# Altium schematic symbol library AG.IC.SchLib: 58 symbols
Pins are listed as number, name and electrical type; pins without a type are passive.

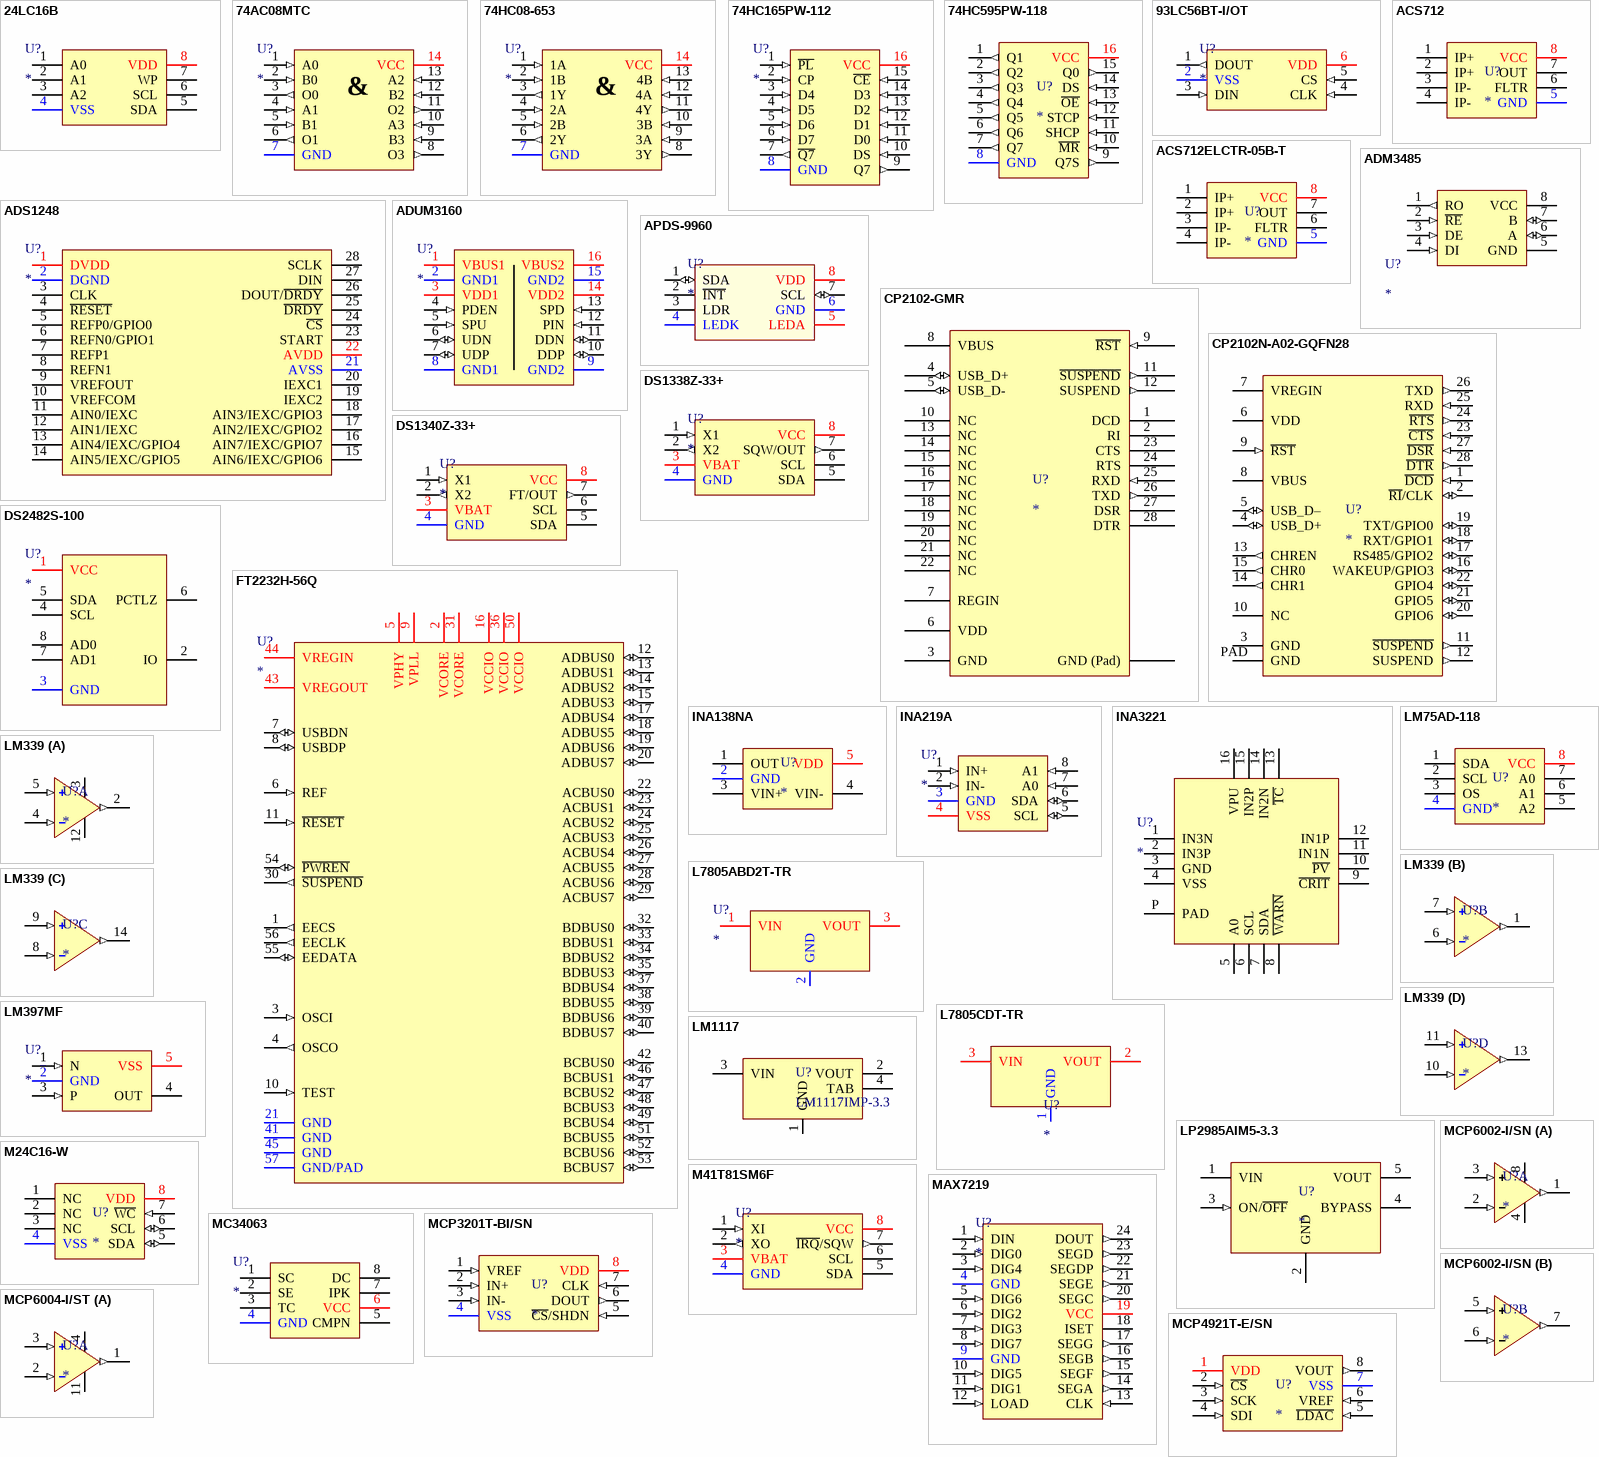
[diagram p0: symbols 24LC16B to MCP6004-I/ST]

## 24LC16B
designator U?
footprint SOIC-8
pins: 1 A0, 2 A1, 3 A2, 4 VSS, 5 SDA, 6 SCL, 7 WP, 8 VDD

## 74AC08MTC
designator U?
IC GATE AND 4CH 2-INP 14TSSOP; Manufacturer: Fairchild (ON Semiconductor); Product Number: 74AC08MTC; VCC: 2V~6V; Supplier Link: https://www.digikey.com/en/products/detail/on-semiconductor/74AC08MTC/976043; Supplier: DigiKey; Supplier Part No: 74AC08MTCFS-ND; Mounting Technology: SMT; Package: TSSOP-14; Alternative Supplier: Chipdip; Alternative Supplier Link: https://www.chipdip.by/product/74ac08mtc; Alternative Supplier Part No: 9050000554
footprint TSSOP-14
pins: 1 A0 (in), 2 B0 (in), 3 O0 (out), 4 A1 (in), 5 B1 (in), 6 O1 (out), 7 GND (power), 8 O3 (out), 9 B3 (in), 10 A3 (in), 11 O2 (out), 12 B2 (in), 13 A2 (in), 14 VCC (power)
text: &

## 74HC08-653
designator U?
Manufacturer: NXP
footprint SOIC-14
pins: 1 1A (in), 2 1B (in), 3 1Y (out), 4 2A (in), 5 2B (in), 6 2Y (out), 7 GND (power), 8 3Y (out), 9 3A (in), 10 3B (in), 11 4Y (out), 12 4A (in), 13 4B (in), 14 VCC (power)
1 alternate drawing of the same symbol
text: &

## 74HC165PW-112
designator U?
IC SHIFT REGISTER 8BIT 16TSSOP
footprint NXP_TSSOP-16_RF_M (Nexperia TSSOP-16 Reflow Medium Density)
pins: 1 ~{PL} (in), 2 CP (in), 3 D4 (in), 4 D5 (in), 5 D6 (in), 6 D7 (in), 7 ~{Q7} (out), 8 GND (power), 9 Q7 (out), 10 DS (in), 11 D0 (in), 12 D1 (in), 13 D2 (in), 14 D3 (in), 15 ~{CE} (in), 16 VCC (power)

## 74HC595PW-118
designator U?
IC SHIFT REGISTER 8BIT 16TSSOP; Manufacturer: Nexperia; Supplier: DigiKey; Supplier Link: https://www.digikey.com/en/products/detail/nexperia-usa-inc/74HC595PW-118/946653; Supplier Part No: 1727-3068-1-ND; Mounting Type: SMT; Alternative Supplier: Chipdip; Alternative Supplier Part No: 9000051359; Alternative Supplier Link: https://www.chipdip.by/product/74hc595pw.118
footprint NXP_TSSOP-16_RF_M (Nexperia TSSOP-16 Reflow Medium Density)
pins: 1 Q1 (out), 2 Q2 (out), 3 Q3 (out), 4 Q4 (out), 5 Q5 (out), 6 Q6 (out), 7 Q7 (out), 8 GND (power), 9 Q7S (out), 10 ~{MR} (in), 11 SHCP (in), 12 STCP (in), 13 ~{OE} (in), 14 DS (in), 15 Q0 (out), 16 VCC (power)

## 93LC56BT-I/OT
designator U?
IC EEPROM 1KBIT SPI 2MHZ SOT23-6; Manufacturer: Microchip Technology; Product Number: 93LC46BT-I/OT; Mounting Technology: SMT; Package: SOT-23-6; Supplier: DigiKey; Supplier Link: https://www.digikey.com/en/products/detail/microchip-technology/93LC46BT-I-OT/572840; Supplier Part No: 93LC46BT-I/OTCT-ND; Category: IC\Memory
footprint TI_SOT-23-6
pins: 1 DOUT (out), 2 VSS (power), 3 DIN (in), 4 CLK (in), 5 CS (in), 6 VDD (power)

## ACS712
designator U?
SENSOR CURRENT HALL AC/DC
footprint SOIC-8
pins: 1 IP+, 2 IP+, 3 IP-, 4 IP-, 5 GND, 6 FLTR, 7 OUT, 8 VCC

## ACS712ELCTR-05B-T
designator U?
SENSOR CURRENT HALL 5A AC/DC; Manufacturer Product No: ACS712ELCTR-05B-T; Manufacturer: Allegro MicroSystems; Supplier URL: https://www.digikey.com/en/products/detail/allegro-microsystems/ACS712ELCTR-05B-T/1284593; Supplier: DigiKey; Supplier Part No: 620-1189-1-ND; Package: 8-SOIC (0.154"", 3.90mm Width); Mounting Technology: SMT; Max Sensing Current: 5 A; Supplier Description: Current Sensor 5A 1 Channel Hall Effect, Open Loop Bidirectional 8-SOIC (0.154", 3.90mm Width)
pins: 1 IP+, 2 IP+, 3 IP-, 4 IP-, 5 GND, 6 FLTR, 7 OUT, 8 VCC

## ADM3485
designator U?
3.3V Full-Duplex RS-485/RS-422 Transceiver
pins: 1 RO (out) "Receiver Output", 2 ~{RE} (in) "Receiver Output Enable", 3 DE (in) "Driver Output Enable", 4 DI (in) "Driver Input", 5 GND (power), 6 A (io) "Non-inverting Receiver Input A", 7 B (io) "Inverting Receiver Input B", 8 VCC (power)

## ADS1248
designator U?
IC ADC 24BIT SIGMA-DELTA 28TSSOP
footprint TSSOP-28
pins: 1 DVDD, 2 DGND, 3 CLK, 4 ~{RESET}, 5 REFP0/GPIO0, 6 REFN0/GPIO1, 7 REFP1, 8 REFN1, 9 VREFOUT, 10 VREFCOM, 11 AIN0/IEXC, 12 AIN1/IEXC, 13 AIN4/IEXC/GPIO4, 14 AIN5/IEXC/GPIO5, 15 AIN6/IEXC/GPIO6, 16 AIN7/IEXC/GPIO7, 17 AIN2/IEXC/GPIO2, 18 AIN3/IEXC/GPIO3, 19 IEXC2, 20 IEXC1, 21 AVSS, 22 AVDD, 23 START, 24 ~{CS}, 25 ~{DRDY}, 26 DOUT/~{DRDY}, 27 DIN, 28 SCLK

## ADUM3160
designator U?
DGT ISOL 2500VRMS 2CH USB 16SOIC; Manufacturer: Analog Devices Inc.; Product Number: ADUM3160BRWZ-RL; Mounting Technology: SMT; Package: SOP-16; Supplier: DigiKey; Alternative Supplier: Belchip; Supplier Link: https://www.digikey.com/en/products/detail/analog-devices-inc/ADUM3160BRWZ-RL/2606661; Supplier Part No: ADUM3160BRWZ-RLCT-ND; Alternative Supplier Link: https://belchip.by/product/?selected_product=43702; Alternative Supplier Part No: 43702
footprint ADUM3160_SOP-16_RF_M (16-Lead Standard Small Outline Package [SOIC-W] Wide Body [RW-16])
pins: 1 VBUS1 (power), 2 GND1 (power), 3 VDD1 (power), 4 PDEN (in), 5 SPU (in), 6 UDN (io), 7 UDP (io), 8 GND1 (power), 9 GND2 (power), 10 DDP (io), 11 DDN (io), 12 PIN (in), 13 SPD (in), 14 VDD2 (power), 15 GND2 (power), 16 VBUS2 (power)

## APDS-9960
designator U?
SENSOR OPT 560NM AMBIENT MODULE; VCC: 3.3V; Supplier: DigiKey; Supplier Link: https://www.digikey.com/en/products/detail/broadcom-limited/APDS-9960/5043146; Supplier Part No: 516-3480-1-ND; Mounting Technology: SMT; Category: IC/Sensor; Package: SMD-8 Module
footprint APDS-9960_RF_M (Optical Sensor Ambient 8-SMD Module)
pins: 1 SDA (io), 2 ~{INT} (oc), 3 LDR, 4 LEDK (power), 5 LEDA (power), 6 GND (power), 7 SCL (io), 8 VDD (power)

## CP2102-GMR
designator U?
[Obsolete] USB UART Converter
pins: 1 DCD, 2 RI, 3 GND (power), 4 USB_D+ (io), 5 USB_D- (io), 6 VDD (power), 7 REGIN (power), 8 VBUS (power), 9 ~{RST} (in), 10 NC, 11 ~{SUSPEND} (out), 12 SUSPEND (out), 13 NC, 14 NC, 15 NC, 16 NC, 17 NC, 18 NC, 19 NC, 20 NC, 21 NC, 22 NC, 23 CTS, 24 RTS, 25 RXD (in), 26 TXD (out), 27 DSR, 28 DTR, ?1 GND (Pad) (power)

## CP2102N-A02-GQFN28
designator U?
USB UART Converter [QFN-28]
pins: 1 ~{DCD} (in), 2 ~{RI}/CLK (io), 3 GND (power), 4 USB_D+ (io), 5 USB_D– (io), 6 VDD (power), 7 VREGIN (power), 8 VBUS (power), 9 ~{RST} (in), 10 NC, 11 ~{SUSPEND} (out), 12 SUSPEND (out), 13 CHREN (out), 14 CHR1 (out), 15 CHR0 (out), 16 WAKEUP/GPIO3 (io), 17 RS485/GPIO2 (io), 18 RXT/GPIO1 (io), 19 TXT/GPIO0 (io), 20 GPIO6 (io), 21 GPIO5 (io), 22 GPIO4 (io), 23 ~{CTS} (in), 24 ~{RTS} (out), 25 RXD (in), 26 TXD (out), 27 ~{DSR} (in), 28 ~{DTR} (out), PAD GND (power)

## DS1338Z-33+
designator U?
IC RTC CLK/CALENDAR I2C 8-SOIC; Manufacturer Part No: DS1338Z-33+; Manufacturer: Maxim Integrated; VCC: 3.3V; Alternative Supplier: Chipdip; Alternative Supplier Link: https://www.chipdip.by/product/ds1338z-33; Alternative Supplier Part No: 405041657; Supplier Part No: DS1338Z-33+T&RCT-ND; Supplier: DigiKey; Supplier Link: https://www.digikey.com/en/products/detail/maxim-integrated/DS1338Z-33-T-R/1196924; Mounting Technology: SMT; Package: SOIC-8; Category: IC/RTC
footprint SOIC-8
pins: 1 X1 (in), 2 X2 (out), 3 VBAT (power), 4 GND (power), 5 SDA (oc), 6 SCL (oc), 7 SQW/OUT (out), 8 VCC (power)

## DS1340Z-33+
designator U?
IC RTC CLK/CALENDAR I2C 8-SOIC; Manufacturer Part No: DS1340Z-33+; Manufacturer: Maxim Integrated; VCC: 3.3V; Alternative Supplier: Chipdip; Alternative Supplier Link: https://www.chipdip.by/product/ds1340z-33-2; Alternative Supplier Part No: 9000387657; Supplier Part No: DS1340Z-33+-ND; Supplier: DigiKey; Supplier Link: https://www.digikey.com/en/products/detail/maxim-integrated/DS1340Z-33/680583; Mounting Technology: SMT; Package: SOIC-8; Category: IC/RTC
footprint SOIC-8
pins: 1 X1 (in), 2 X2 (out), 3 VBAT (power), 4 GND (power), 5 SDA (oc), 6 SCL (oc), 7 FT/OUT (out), 8 VCC (power)

## DS2482S-100
designator U?
Single-Channel 1-Wire Master
footprint SOIC-8
pins: 1 VCC, 2 IO, 3 GND, 4 SCL, 5 SDA, 6 PCTLZ, 7 AD1, 8 AD0

## FT2232H-56Q
designator U?
IC DUAL USB TO UART/FIFO 56VQFN; Manufacturer: Future Technology Devices International Ltd; Product Number: FT2232H-56Q-TRAY; Package: VQFN-56; Supplier: DigiKey; Supplier Link: https://www.digikey.com/en/products/detail/ftdi-future-technology-devices-international-ltd/FT2232H-56Q-TRAY/5994773; Supplier Part No: 768-1276-ND; Mounting Technology: SMT; Datasheet: https://www.ftdichip.com/Support/Documents/DataSheets/ICs/DS_FT2232H.pdf; Category: IC
footprint FTDI_VQFN-56_RF_M (FTDI FT2232H-56Q Reflow Medium Density)
pins: 1 EECS (out), 2 VCORE (power), 3 OSCI (in), 4 OSCO (out), 5 VPHY (power), 6 REF (in), 7 USBDN (io), 8 USBDP (io), 9 VPLL (power), 10 TEST (in), 11 ~{RESET} (in), 12 ADBUS0 (io), 13 ADBUS1 (io), 14 ADBUS2 (io), 15 ADBUS3 (io), 16 VCCIO (power), 17 ADBUS4 (io), 18 ADBUS5 (io), 19 ADBUS6 (io), 20 ADBUS7 (io), 21 GND (power), 22 ACBUS0 (io), 23 ACBUS1 (io), 24 ACBUS2 (io), 25 ACBUS3 (io), 26 ACBUS4 (io), 27 ACBUS5 (io), 28 ACBUS6 (io), 29 ACBUS7 (io), 30 ~{SUSPEND} (out), 31 VCORE (power), 32 BDBUS0 (io), 33 BDBUS1 (io), 34 BDBUS2 (io), 35 BDBUS3 (io), 36 VCCIO (power), 37 BDBUS4 (io), 38 BDBUS5 (io), 39 BDBUS6 (io), 40 BDBUS7 (io), 41 GND (power), 42 BCBUS0 (io), 43 VREGOUT (power), 44 VREGIN (power), 45 GND (power), 46 BCBUS1 (io), 47 BCBUS2 (io), 48 BCBUS3 (io), 49 BCBUS4 (io), 50 VCCIO (power), 51 BCBUS5 (io), 52 BCBUS6 (io), 53 BCBUS7 (io), 54 ~{PWREN} (io), 55 EEDATA (io), 56 EECLK (out), 57 GND/PAD (power)

## INA138NA
designator U?
High-Side Measurement Current Shunt Monitor 2.7-36V; Manufacturer: Texas Instruments; Product Number: INA138NA/250; Supplier: Chipdip; Supplier Link: https://www.chipdip.by/product/ina138na-250-4; Supplier Part No: 9000096840; Package: SOT-23-5; Mounting Technology: SMT
pins: 1 OUT, 2 GND, 3 VIN+, 4 VIN-, 5 VDD
1 alternate drawing of the same symbol

## INA219A
designator U?
Current Monitor 1% I2C Bus; Manufacturer: Texas Instruments; Product Number: INA219AIDCNT; Supplier: DigiKey; Supplier Part No: 296-26073-1-ND; Supplier URL: https://www.digikey.com/en/products/detail/texas-instruments/INA219AIDCNT/2047417; Accuracy: 1%; Mounting Type: SMT; Package: SOT-23-8
footprint INA219-SOT-23-8 (Pitch 0.65mm)
pins: 1 IN+ (in), 2 IN- (in), 3 GND (power), 4 VSS (power), 5 SCL (io), 6 SDA (io), 7 A0 (in), 8 A1 (in)

## INA3221
designator U?
IC CURRENT SHUNT MONITOR 16VQFN; Manufacturer: Texas Instruments; Supplier: DigiKey; Supplier Part No: 296-INA3221AIRGVRCT-ND; Supplier Link: https://www.digikey.com/en/products/detail/texas-instruments/INA3221AIRGVR/3588826; Mounting Technology: SMT; Package: VQFN-16; Category: IC
footprint TI_QFN-16_RF_M (Texas Instruments QFN-16 (S-PVQFN-16) Reflow Medium Density)
pins: 1 IN3N, 2 IN3P, 3 GND, 4 VSS, 5 A0, 6 SCL, 7 SDA, 8 ~{WARN}, 9 ~{CRIT}, 10 ~{PV}, 11 IN1N, 12 IN1P, 13 ~{TC}, 14 IN2N, 15 IN2P, 16 VPU, P PAD

## L7805ABD2T-TR
designator U?
IC REG LINEAR 5V 1.5A D2PAK; Manufacturer: ST Microelectronics; Product Number: L7805ABD2T-TR; Input Voltage: 35V (max.); Output Current: 1.5A (max.); Alternative Supplier Link: https://www.chipdip.by/product/l7805ab-d-2t; Alternative Supplier: Chipdip; Alternative Supplier Part No: 2815345081; Mounting Technology: SMT; Package: D2-PAK; Supplier Link: https://www.digikey.com/en/products/detail/stmicroelectronics/L7805ABD2T-TR/585694; Supplier: DigiKey; Supplier Part No: 497-1170-1-ND; Output Voltage: 5V
footprint ST_D2PAK_L78xx (IC REG LINEAR -5V 1.5A D2PAK)
pins: 1 VIN (power), 2 GND (power), 3 VOUT (power)

## L7805CDT-TR
designator U?
IC REG LINEAR 5V 1.5A DPAK; Manufacturer: ST Microelectronics; Input Voltage: 20V (max.); Output Current: 1.5A (max.); Product Number: L7805CDT-TR; Alternative Supplier: Chipdip; Alternative Supplier Link: https://www.chipdip.by/product/l7805cdt-tr; Alternative Supplier Part No: 9000101805; Category: IC/Voltage Regulator; Mounting Technology: SMT; Output Voltage: 5V; Package: D-PAK; Supplier: DigiKey; Supplier Link: https://www.digikey.com/en/products/detail/stmicroelectronics/L7805CDT-TR/1038234; Supplier Part No: 497-7255-1-ND
footprint DPAK
pins: 1 GND, 2 VOUT, 3 VIN

## LM75AD-118
designator U?
SENSOR DIGITAL -55C-125C 8SO; PartNo: 568-10295-1-ND; Manufacturer: NXP USA Inc.; ProductNumber: LM75AD,118; ShippingPackage: Cut Tape (CT); DetailedDescription: Temperature Sensor Digital, Local -55°C ~ 125°C 11 b 8-SO; Supplier: DigiKey; URL: https://www.digikey.com/en/products/detail/nxp-usa-inc/LM75AD118/1692795; UnitPrice: $0.74; Package: 8-SOIC (0.154", 3.90mm Width)
footprint SOIC127P600X175-8N (SOIC, 8-Leads, Body 4.90x3.90mm, Pitch 1.27mm, IPC Medium Density)
pins: 1 SDA, 2 SCL, 3 OS, 4 GND, 5 A2, 6 A1, 7 A0, 8 VCC

## LM339
designator U?
QUAD DIFFERENTIAL COMPARATOR; Manufacturer: Unisonic; Supplier: Belchip; Supplier Link: https://belchip.by/product/?selected_product=37254; Supplier Part No: 37254; Mounting Type: SMT; Package: TSSOP-14; Datasheet Link: http://www.unisonic.com.tw/datasheet/LM339.pdf
footprint TSSOP-14-SOP127P600-8N (TSSOP-14)
part A pins: 2 OUTA (out), 3 VDD (power), 4 INAN (in), 5 INAP (in), 12 VSS (power)
part B pins: 1 OUTB (out), 6 INBN (in), 7 INBP (in)
part C pins: 8 INCN (in), 9 INCP (in), 14 OUTC (out)
part D pins: 10 INDN (in), 11 INDP (in), 13 OUTD (out)

## LM397MF
designator U?
IC COMPARATOR VOLT SGL SOT23-5; Manufacturer: Texas Instruments; Product Number: LM397MFX/NOPB; Supplier Part No: LM397MFX/NOPBCT-ND; Supplier: DigiKey; Alternative Supplier: Chipdip; Alternative Supplier Link: https://www.chipdip.by/product/lm397mf-nopb; Alternative Supplier Part No: 9000014932; Supplier Link: https://www.digikey.com/en/products/detail/texas-instruments/LM397MFX-NOPB/1871434; Mounting Technology: SMT; Package: SOT-23-5; Category: IC
footprint TI_SOT-23-5
pins: 1 N (in), 2 GND (power), 3 P (in), 4 OUT (oc), 5 VSS (power)
1 alternate drawing of the same symbol

## LM1117
designator U?, comment LM1117IMP-3.3
Voltage Regulator Linear 1% 800mA SOT-223; Manufacturer: Texas Instruments; VIN_MAX: +15V; VOUT: +3.3V; Case: SOT-223; Product Number: LM1117IMP-3.3; Supplier: Chipdip; Supplier Link: https://www.chipdip.by/product/lm1117imp-3.3-nopb-2; Supplier Part No: 5641124530; Mounting Type: SMT
footprint SOT-223 (SOT-223: 4 Leads; Tab Not Connected)
pins: 1 GND, 2 VOUT, 3 VIN, 4 TAB

## LP2985AIM5-3.3
designator U?
Малошумящий стабилизатор напряжения с отключением (0.01мкА), 150мА, 3.3В [SOT-23-5]
pins: 1 VIN (power), 2 GND (power), 3 ON/~{OFF} (in), 4 BYPASS (power), 5 VOUT (power)

## M24C16-W
designator U?
IC SRL EEPROM 16KBIT 2.5V 8-SOIC; Manufacturer: STMicroelectronics; Manufacturer Product Number: M24C16-WMN6TP; Base Product Number: M24C16; Supplier: DigiKey; Supplier URL: https://www.digikey.com/en/products/detail/stmicroelectronics/M24C16-WMN6TP/1007246; Supplier Part No: 497-17785-1-ND; Supplier Package: Cut Tape; Mounting Type: SMT; Operating Temperature: -40°C ~ 85°C (TA); Supplier Price: $0.14
footprint SOIC-8
pins: 1 NC, 2 NC, 3 NC, 4 VSS (power), 5 SDA (io), 6 SCL (io), 7 ~{WC} (in), 8 VDD (power)

## M41T81SM6F
designator U?
IC RTC CLK/CALENDAR I2C 8-SOIC; Manufacturer Part No: M41T81SM6F; Manufacturer: STMicroelectronics; VCC: 2.7V ~ 5.5V; Detailed Description: Real Time Clock (RTC) IC Clock/Calendar - I²C, 2-Wire Serial 8-SOIC (0.154", 3.90mm Width); Alternative Supplier: Chipdip; Alternative Supplier Link: https://www.chipdip.by/product/m41t81sm6f; Alternative Supplier Part No: 9000354105; Supplier Part No: 497-4684-1-ND; Supplier: DigiKey; Supplier Link: https://www.digikey.com/en/products/detail/stmicroelectronics/M41T81SM6F/865103; Mounting Technology: SMT; Package: SOIC-8
footprint ST_SOIC-8
pins: 1 XI (in), 2 XO (out), 3 VBAT (power), 4 GND (power), 5 SDA (oc), 6 SCL (oc), 7 ~{IRQ}/SQW (out), 8 VCC (power)

## MAX7219
designator U?
IC DRVR 7 SEGMNT 8 DIGIT 24SOIC; Manufacturer: Maxim Integrated; Manufacturer Product Number: MAX7219CWG+; Supplier: DigiKey; Supplier Part No: MAX7219CWG+-ND; Supplier Link: https://www.digikey.com/en/products/detail/maxim-integrated/MAX7219CWG/948192; Package: SOIC-24; Mounting Technology: SMT
pins: 1 DIN (in), 2 DIG0 (in), 3 DIG4 (in), 4 GND (power), 5 DIG6 (in), 6 DIG2 (in), 7 DIG3 (in), 8 DIG7 (in), 9 GND (power), 10 DIG5 (in), 11 DIG1 (in), 12 LOAD (in), 13 CLK (in), 14 SEGA (out), 15 SEGF (out), 16 SEGB (out), 17 SEGG (out), 18 ISET (hiz), 19 VCC (power), 20 SEGC (out), 21 SEGE (out), 22 SEGDP (out), 23 SEGD (out), 24 DOUT (out)

## MC34063
designator U?
IC REG BUCK BST ADJ 1.5A
footprint SOIC-8
pins: 1 SC, 2 SE, 3 TC, 4 GND, 5 CMPN, 6 VCC, 7 IPK, 8 DC

## MCP3201T-BI/SN
designator U?
IC ADC 12BIT SAR 8SOIC; PartNo: MCP3201T-BI/SNCT-ND; Manufacturer: Microchip Technology; ProductCode: MCP3201T-BI/SN; Supplier: DigiKey; URL: https://www.digikey.com/en/products/detail/microchip-technology/MCP3201T-BI-SN/319428; UnitPrice: $2.66; MountType: SMD
footprint SOIC127P600X175-8N (SOIC, 8-Leads, Body 4.90x3.90mm, Pitch 1.27mm, IPC Medium Density)
pins: 1 VREF (in), 2 IN+ (in), 3 IN- (in), 4 VSS (power), 5 ~{CS}/SHDN (in), 6 DOUT (out), 7 CLK (in), 8 VDD (power)

## MCP4921T-E/SN
designator U?
IC DAC 12BIT V-OUT 8SOIC; PartNo: MCP4921T-E/SNCT-ND; Manufacturer: Microchip Technology; Supplier: DigiKey; Product: MCP4921T-E/SN; UnitPrice: $1.97; URL: https://www.digikey.com/en/products/detail/microchip-technology/MCP4921T-E-SN/716059; MountType: SMD
footprint SOIC127P600X175-8N (SOIC, 8-Leads, Body 4.90x3.90mm, Pitch 1.27mm, IPC Medium Density)
pins: 1 VDD (power), 2 ~{CS} (in), 3 SCK (in), 4 SDI (in), 5 ~{LDAC} (in), 6 VREF (in), 7 VSS (power), 8 VOUT (out)

## MCP6002-I/SN
designator U?
IC OPAMP GP 2 CIRCUIT 8SOIC
footprint SOIC-8
part A pins: 1 (out), 2 (in), 3 (in), 4 (power), 8 (power)
part B pins: 5 (in), 6 (in), 7 (out)

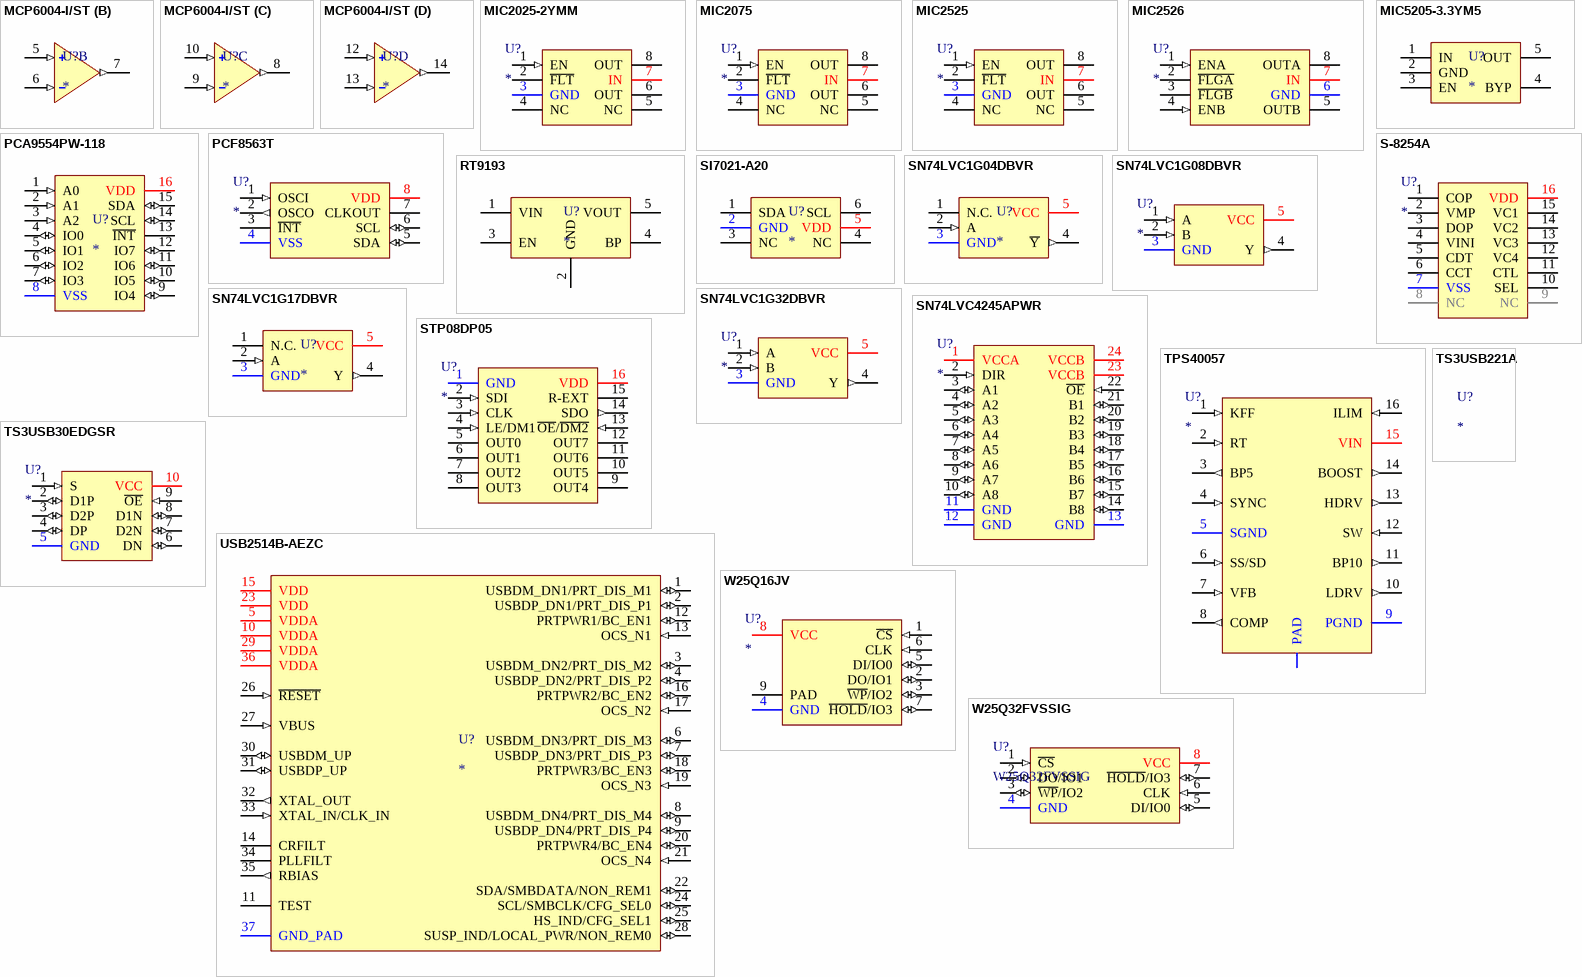
[diagram p1: symbols MCP6004-I/ST to W25Q32FVSSIG]

## MCP6004-I/ST
designator U?
IC OPAMP GP 4 CIRCUIT 14TSSOP; Supplier: Chipdip; Supplier Link: https://www.chipdip.by/product/mcp6004-i-st-microchip; Supplier Part No: 2831162532; Package: TSSOP-14; Mounting Type: SMT
footprint TSSOP-14-SOP127P600-8N (TSSOP-14)
part A pins: 1 OUTA (out), 2 INAN (in), 3 INAP (in), 4 VDD (power), 11 VSS (power)
part B pins: 5 INBP (in), 6 INBN (in), 7 OUTB (out)
part C pins: 8 OUTC (out), 9 INCN (in), 10 INCP (in)
part D pins: 12 INDP (in), 13 INDN (in), 14 OUTD (out)

## MIC2025-2YMM
designator U?
IC PWR SWITCH N-CHAN 1:1 8MSOP; Manufacturer: Microchip Technology; Product Number: MIC2025-2YMM-TR; Supplier: DigiKey; Supplier Link: https://www.digikey.com/en/products/detail/microchip-technology/MIC2025-2YMM-TR/1027884; Supplier Part No: MIC2025-2YMM-CT-ND; Mounting Technology: SMT; Package: MSOP-8; Category: IC
pins: 1 EN (in), 2 ~{FLT} (oc), 3 GND (power), 4 NC, 5 NC, 6 OUT (power), 7 IN (power), 8 OUT (power)

## MIC2075
designator U?
IC PWR SWITCH N-CHAN 1:1 500MA; Manufacturer: Microchip Technology; Product Number: MIC2075-2YM-TR; Supplier: DigiKey; Supplier Link: https://www.digikey.com/en/products/detail/microchip-technology/MIC2075-2YM-TR/1616766; Supplier Part No: MIC2075-2YM-CT-ND; Mounting Technology: SMT; Package: SOIC-8; Category: IC
footprint SOIC-8
pins: 1 EN (in), 2 ~{FLT} (oc), 3 GND (power), 4 NC, 5 NC, 6 OUT (power), 7 IN (power), 8 OUT (power)

## MIC2525
designator U?
USB POWER CONTROL SWITCH; Manufacturer: Micrel Inc.; Product Number: MIC2525-1BM; Supplier: DigiKey; Supplier Link: *; Supplier Part No: *; Mounting Technology: SMT; Package: SOIC-8; Category: IC
footprint SOIC-8
pins: 1 EN (in), 2 ~{FLT} (oc), 3 GND (power), 4 NC, 5 NC, 6 OUT (power), 7 IN (power), 8 OUT (power)

## MIC2526
designator U?
DUAL USB POWER CONTROL SWITCH; Manufacturer: Micrel Inc.; Product Number: MIC2526-1BM; Supplier: DigiKey; Supplier Link: *; Supplier Part No: *; Mounting Technology: SMT; Package: SOIC-8; Category: IC
footprint SOIC-8
pins: 1 ENA (in), 2 ~{FLGA} (oc), 3 ~{FLGB} (oc), 4 ENB (in), 5 OUTB (power), 6 GND (power), 7 IN (power), 8 OUTA (power)

## MIC5205-3.3YM5
designator U?
IC REG LINEAR 3.3V 150MA SOT23-5; Supplier URL: https://www.digikey.com/en/products/detail/microchip-technology/MIC5205-3-3YM5-TR/771728; Supplier Part No: 576-1259-1-ND
pins: 1 IN, 2 GND, 3 EN, 4 BYP, 5 OUT

## PCA9554PW-118
designator U?
IC I/O EXPANDER I2C 8B 16TSSOP; PartNo: 568-1055-1-ND; Manufacturer: NXP USA Inc.; ManufacturerCode: PCA9554PW,118; Supplier: DigiKey; URL: https://www.digikey.com/en/products/detail/nxp-usa-inc/PCA9554PW118/735669; UnitPrice: $1.56
footprint TSSOP-16-SOP127P600-8N (TSSOP-16)
pins: 1 A0 (in), 2 A1 (in), 3 A2 (in), 4 IO0 (io), 5 IO1 (io), 6 IO2 (io), 7 IO3 (io), 8 VSS (power), 9 IO4 (io), 10 IO5 (io), 11 IO6 (io), 12 IO7 (io), 13 ~{INT} (oc), 14 SCL (io), 15 SDA (io), 16 VDD (power)

## PCF8563T
designator U?
footprint SOIC-8
pins: 1 OSCI (in), 2 OSCO (out), 3 ~{INT} (oc), 4 VSS (power), 5 SDA (io), 6 SCL (io), 7 CLKOUT (oc), 8 VDD (power)

## RT9193
designator U?
IC REG LINEAR 300MA SOT23-5; Output Voltage: ? V; Part Number: *; Supplier: *
footprint TI_SOT-23-5
pins: 1 VIN, 2 GND, 3 EN, 4 BP, 5 VOUT

## S-8254A
designator U?
BATTERY PROTECTION IC FOR 3-SERIAL OR 4-SERIAL CELL PACK
pins: 1 COP, 2 VMP, 3 DOP, 4 VINI, 5 CDT, 6 CCT, 7 VSS, 8 NC, 9 NC, 10 SEL, 11 CTL, 12 VC4, 13 VC3, 14 VC2, 15 VC1, 16 VDD

## SI7021-A20
designator U?
SENS HUMID/TEMP 3.6V I2C 2% 6DFN; Manufacturer Product Number: SI7021-A20-GM1R; Manufacturer: Silicon Labs; Supplier URL: https://www.digikey.com/en/products/detail/silicon-labs/SI7021-A20-GM1/5048934; Supplier Part No: 336-4380-1-ND; Supplier Package: Cut Tape (CT); Mounting Type: SMT; Package: DFN-6
footprint SI7021_DFN-6_RF_M (DFN-6 Reflow Medium Density)
pins: 1 SDA, 2 GND, 3 NC, 4 NC, 5 VDD, 6 SCL

## SN74LVC1G04DBVR
designator U?
IC INVERTER 1CH 1-INP SOT23-5; Manufacturer: Texas Instruments; Manufacturer Product Number: SN74LVC1G04DBVR; Supplier Part No: 296-11599-1-ND; Supplier Link: https://www.digikey.com/en/products/detail/texas-instruments/SN74LVC1G04DBVR/385716; Mounting Technology: SMT; Package: SOT-23-5; Supplier: DigiKey; Alternative Supplier Link: https://www.chipdip.by/product/sn74lvc1g04dbvr-c04; Alternative Supplier: Chipdip; Alternative Supplier Part No: 9000053605
footprint TI_SOT-23-5
pins: 1 N.C., 2 A (in), 3 GND (power), 4 ~{Y} (out), 5 VCC (power)

## SN74LVC1G08DBVR
designator U?
IC GATE AND 1CH 2-INP SOT23-5; Manufacturer: Texas Instruments; Product Number: SN74LVC1G08DBVR; Supply Voltage: 1.65V~5.5V; Supplier: DigiKey; Supplier Link: https://www.digikey.com/en/products/detail/texas-instruments/SN74LVC1G08DBVR/385718; Supplier Part No: 296-11601-1-ND; Mounting Technology: SMT; Package: SOT-23-5; Alternative Supplier: Chipdip; Alternative Supplier Link: https://www.chipdip.by/product/sn74lvc1g08dbvr-2; Alternative Supplier Part No: 9000043235
footprint TI_SOT-23-5
pins: 1 A (in), 2 B (in), 3 GND (power), 4 Y (out), 5 VCC (power)

## SN74LVC1G17DBVR
designator U?
IC BUF NON-INVERT 5.5V SOT23-5; Manufacturer: Texas Instruments; Manufacturer Product Number: SN74LVC1G17DBVR; Supplier Part No: 296-11933-1-ND; Supplier URL: https://www.digikey.com/en/products/detail/texas-instruments/SN74LVC1G17DBVR/389051; Supplier Unit Price: $0.29; Supplier Packaging: Cut Tape; Operating Temperature: -40°C ~ 125°C (TA); Mounting Type: SMT; Package: SOT-23-5
footprint TI_SOT-23-5
pins: 1 N.C., 2 A (in), 3 GND (power), 4 Y (out), 5 VCC (power)

## SN74LVC1G32DBVR
designator U?
Single 2-Input Positive-OR Gate; Manufacturer: Texas Instruments; Manufacturer Part No: SN74LVC1G32DBVR; Supplier: Chipdip; Supplier Part No: 9060000538; Supplier Link: https://www.chipdip.by/product/sn74lvc1g32dbvr; Mounting Type: SMT
footprint TI_SOT-23-5
pins: 1 A (in), 2 B (in), 3 GND (power), 4 Y (out), 5 VCC (power)

## SN74LVC4245APWR
designator U?
Octal Bus Transceiver And 3.3-V To 5-V Shifter With 3-State Outputs; Manufacturer: Texas Instruments; Manufacturer Part No: SN74LVC4245APWR; Supplier: Chipdip; Supplier Link: https://www.chipdip.by/product/sn74lvc4245apwr; Supplier Part No: 9000247069
footprint TSSOP-24
pins: 1 VCCA (power), 2 DIR (in), 3 A1 (io), 4 A2 (io), 5 A3 (io), 6 A4 (io), 7 A5 (io), 8 A6 (io), 9 A7 (io), 10 A8 (io), 11 GND (power), 12 GND (power), 13 GND (power), 14 B8 (io), 15 B7 (io), 16 B6 (io), 17 B5 (io), 18 B4 (io), 19 B3 (io), 20 B2 (io), 21 B1 (io), 22 ~{OE} (in), 23 VCCB (power), 24 VCCB (power)

## STP08DP05
designator U?
Mounting Technology: SMT
footprint TI_SOIC-16 (D_R-PDSO-G16)
pins: 1 GND (power), 2 SDI (in), 3 CLK (in), 4 LE/DM1 (in), 5 OUT0 (oc), 6 OUT1 (oc), 7 OUT2 (oc), 8 OUT3 (oc), 9 OUT4 (oc), 10 OUT5 (oc), 11 OUT6 (oc), 12 OUT7 (oc), 13 ~{OE}/~{DM2} (in), 14 SDO (out), 15 R-EXT (power), 16 VDD (power)

## TPS40057
designator U?
IC REG CTRLR BUCK 16HTSSOP; Manufacturer: Texas Instruments; Product Number: TPS40057PWPR; Mounting Technology: SMT; Supplier Link: https://www.digikey.com/en/products/detail/texas-instruments/TPS40057PWPR/1671697; Supplier: DigiKey; Supplier Part No: 296-26961-1-ND; Package: HTSSOP-16
footprint TI_HTSSOP-16 (Texas Instruments HTSSOP-16 (PowerPAD TSSOP) Reflow Medium Density)
pins: 1 KFF (in), 2 RT (in), 3 BP5 (out), 4 SYNC (in), 5 SGND (power), 6 SS/SD (in), 7 VFB (in), 8 COMP (out), 9 PGND (power), 10 LDRV (out), 11 BP10 (out), 12 SW (in), 13 HDRV (out), 14 BOOST (out), 15 VIN (power), 16 ILIM (in), PAD (power)

## TS3USB30EDGSR
designator U?
IC USB SWITCH SGL 1X2 10MSOP; Manufacturer: Texas Instruments; Product Number: TS3USB30EDGSR; Supplier Link: https://www.digikey.com/en/products/detail/texas-instruments/TS3USB30EDGSR/2193086; Supplier: DigiKey; Supplier Part No: 296-25495-1-ND; Mounting Technology: SMT; Category: IC; Package: MSOP-10
footprint TI_VSSOP-10_RF_M (Texas Instruments VSSOP-10 DGS0010A Reflow Medium Density)
pins: 1 S (in), 2 D1P (io), 3 D2P (io), 4 DP (io), 5 GND (power), 6 DN (io), 7 D2N (io), 8 D1N (io), 9 ~{OE} (in), 10 VCC (power)

## TS3USB221A
designator U?

## USB2514B-AEZC
designator U?
USB 2.0 Hub Controller; Manufacturer: Microchip; Product Name: USB2514B-AEZC; Supplier Link: https://www.chipdip.by/product/usb2514b-aezc-microchip; Supplier Part No: 9000221010; Mounting Type: SMT; Case: QFN-36; Supplier: Chipdip
footprint MCHP_USB2514B-QFN-36
pins: 1 USBDM_DN1/PRT_DIS_M1 (io), 2 USBDP_DN1/PRT_DIS_P1 (io), 3 USBDM_DN2/PRT_DIS_M2 (io), 4 USBDP_DN2/PRT_DIS_P2 (io), 5 VDDA (power), 6 USBDM_DN3/PRT_DIS_M3 (io), 7 USBDP_DN3/PRT_DIS_P3 (io), 8 USBDM_DN4/PRT_DIS_M4 (io), 9 USBDP_DN4/PRT_DIS_P4 (io), 10 VDDA (power), 11 TEST, 12 PRTPWR1/BC_EN1 (io), 13 OCS_N1 (in), 14 CRFILT (power), 15 VDD (power), 16 PRTPWR2/BC_EN2 (io), 17 OCS_N2 (in), 18 PRTPWR3/BC_EN3 (io), 19 OCS_N3 (in), 20 PRTPWR4/BC_EN4 (io), 21 OCS_N4 (in), 22 SDA/SMBDATA/NON_REM1 (io), 23 VDD (power), 24 SCL/SMBCLK/CFG_SEL0 (io), 25 HS_IND/CFG_SEL1 (io), 26 ~{RESET} (in), 27 VBUS (in), 28 SUSP_IND/LOCAL_PWR/NON_REM0 (io), 29 VDDA (power), 30 USBDM_UP (io), 31 USBDP_UP (io), 32 XTAL_OUT (out), 33 XTAL_IN/CLK_IN (in), 34 PLLFILT (power), 35 RBIAS (out), 36 VDDA (power), 37 GND_PAD (power)

## W25Q16JV
designator U?
IC FLASH 16MBIT SPI/QUAD 8USON
footprint MCHP_USON-8 (USON-8 [UDFN-8] 2x3mm)
pins: 1 ~{CS} (in), 2 DO/IO1 (io), 3 ~{WP}/IO2 (io), 4 GND (power), 5 DI/IO0 (io), 6 CLK (in), 7 ~{HOLD}/IO3 (io), 8 VCC (power), 9 PAD (power)

## W25Q32FVSSIG
designator U?
IC FLASH 32MBIT SPI/QUAD 8SOIC; Manufacturer: Winbond Electronics; Memory Capacity: 4M x 8; VCC: 2.7-3.6V; Obsolete: Yes; Supplier Link: https://www.digikey.com/en/products/detail/winbond-electronics/W25Q32FVSSIG/4037404; Supplier: DigiKey; Supplier Part No: W25Q32FVSSIG-ND; Mounting Technology: SMT; Package: SOIC-8; Alternative Supplier Link: https://www.chipdip.by/product/w25q32fvssig-25q32fvsig; Alternative Supplier Part No: 9000212767; Product Number: W25Q32FVSSIG; Alternative Supplier: Chipdip
footprint SOIC-8
pins: 1 ~{CS} (in), 2 DO/IO1 (io), 3 ~{WP}/IO2 (io), 4 GND (power), 5 DI/IO0 (io), 6 CLK (in), 7 ~{HOLD}/IO3 (io), 8 VCC (power)